# Altium integrated library SFH2270R.IntLib: 1 symbol
Pins are listed as number, name and electrical type; pins without a type are passive.

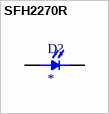
[diagram p0: symbol SFH2270R]

## SFH2270R
designator D?
Opto SFH 2270 R Visible Light Photodiode, SMD Top LED; Package: None; Price: None; Value: *; MP: SFH2270R; Availability: Unavailable
footprint LED_SFH2270R
pins: A, C